# Altium schematic symbol library npn.SchLib: 1 symbol
Pins are listed as number, name and electrical type; pins without a type are passive.

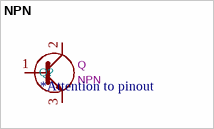
[diagram p0: symbol NPN]

## NPN
designator Q?, comment *Attention to pinout  value NPN  Reference: Q
ki_keywords: NPN Bipolar Transistor; ki_description: Symbol for NPN BJT
footprint TO-252AA (D-PAK); pin to pad 2>4
pins: 1 B, 2 C, 3 E